# Altium integrated library TI_Temperature_Sensors.IntLib: 2 symbols
Pins are listed as number, name and electrical type; pins without a type are passive.

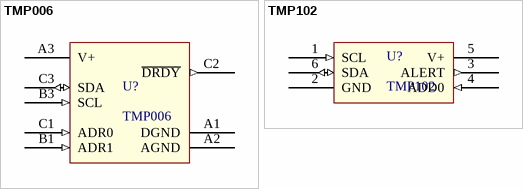
[diagram p0: symbols TMP006 to TMP102]

## TMP006
designator U?
TMP006/B Infrared Thermopile Sensor in Chip-Scale Package; ComponentLink1Description: Datasheet; ComponentLink1URL: http://www.ti.com/ww/eu/sensampbook/tmp006.pdf
footprint BGA9C50P_3X3_153X153X62_8 (Ball Grid Array (BGA), 0.50 mm pitch, square; 9 pin, 1.536 mm L X 1.536 mm W X 0.625 mm H body)
pins: A1 DGND (power) "Digital ground", A2 AGND (power) "Analog ground", A3 V+ (power) "Positive supply (2.2 V to 5.5 V)", B1 ADR1 (in) "Address select pin", B3 SCL (in) "Serial clock line for SMBus, open-drain; requires a pull-up resistor to V+", C1 ADR0 (in) "Address select pin", C2 ~{DRDY} (out) "Data ready, active low, open-drain; requires a pull-up resistor to V+", C3 SDA (io) "Serial data line for SMBus, open-drain; requires a pull-up resistor to V+"

## TMP102
designator U?
TMP102 Low-Power Digital Temperature Sensor With SMBus and Two-Wire Serial Interface in SOT563; ComponentLink1Description: Datasheet; ComponentLink1URL: http://www.ti.com/lit/ds/symlink/tmp102.pdf
footprint ICSOFL6P50_160X160X60L30X20N (Integrated Circuit (IC), Small Outline Flat Lead (SOFL), 0.50 mm pitch; 6 pin, 1.60 mm L X 1.20 mm W X 0.60 mm H body)
pins: 1 SCL (in) "Serial clock. Open-drain output; requires a pullup resistor", 2 GND (power) "Ground", 3 ALERT (out) "Overtemperature alert. Open-drain output; requires a pullup resistor", 4 ADD0 (in) "Address select. Connect to GND or V+", 5 V+ (power) "Supply voltage, 1.4 V to 3.6 V", 6 SDA (io) "Serial data. Open-drain output; requires a pullup resistor."